# Altium integrated library TI Data Converters Analog to Digital Converter.IntLib: 2198 symbols (part 112 of 164)
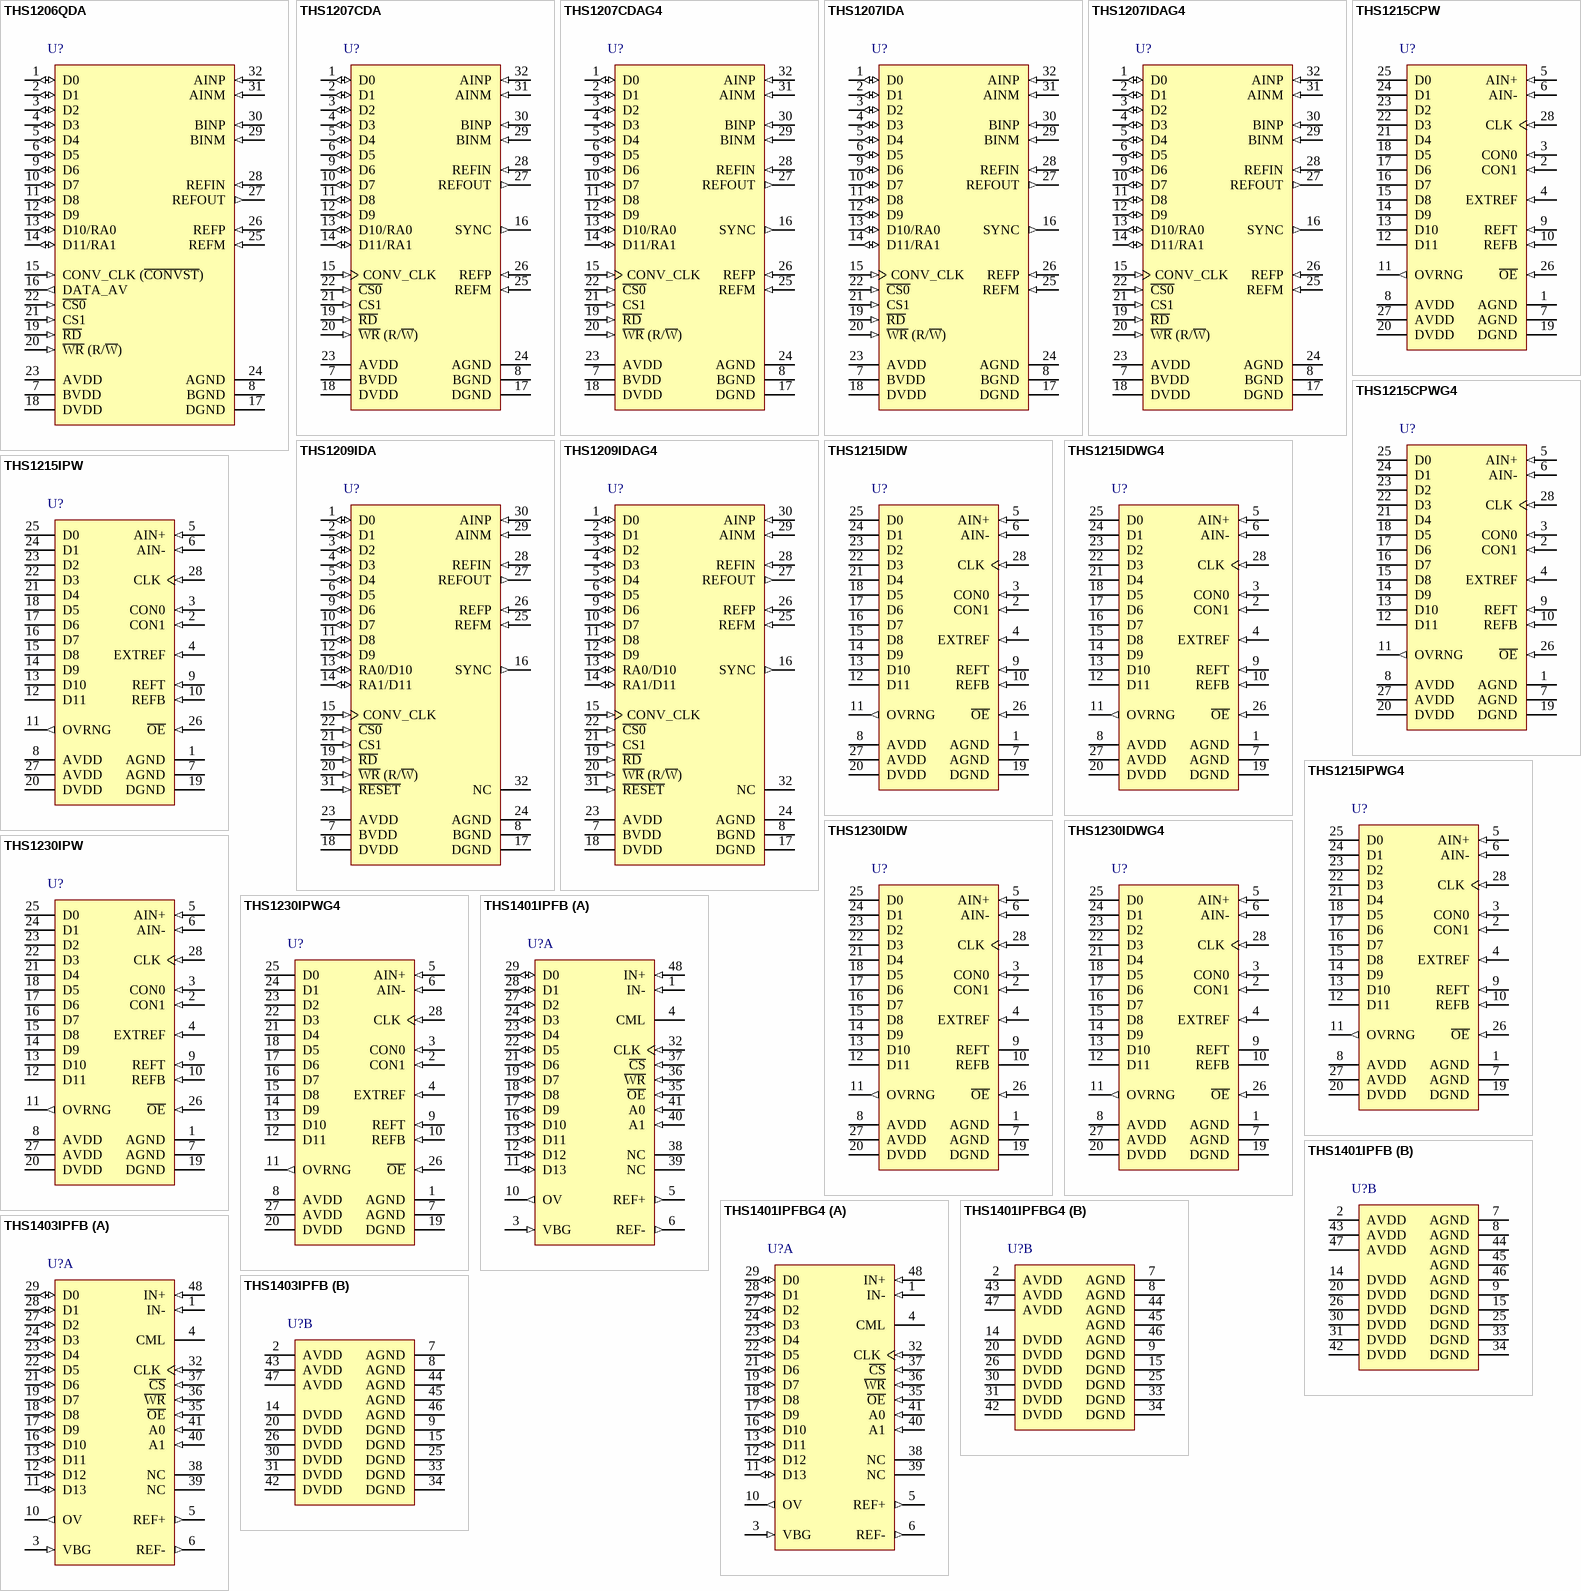
[diagram p237: symbols THS1206QDA to THS1403IPFB]

## THS1401IPFBG4
designator U?
14-Bit, 1 MSPS ADC Single Channel, Differential Input, DSP / uP Interface, Programmable Gain Amplifier, Internal S&H, -40 to 85 degC, 48-pin QFP (PFB48), Green (RoHS & no Sb/Br); Manufacturer: Texas Instruments; PartNumber: THS1401IPFBG4; # Input Channels: 1; Analog Voltage AV/DD(Max)(V): 3.6; Analog Voltage AV/DD(Min)(V): 3; Architecture: Pipeline; ENOB(Bits): 11.5; INL(Max)(+/-LSB): 2.5; Interface: Parallel CMOS; Resolution(Bits): 14; Sample Rate (max)(SPS): 1M; SFDR(dB): 80; SINAD(dB): 70; SNR(dB): 72; SubFamily: Precision ADC (<=10MSPS); DatasheetVersion: SLAS248D; PackageVersion: 4073176/B, 10/1996; PackageReference: PFB48; PackageDescription: 48-Pin Plastic Flat Pack, Body 7 x 7 mm, Pitch 0.5 mm; Supplier 1: Digi-Key; Supplier Part Number 1: 296-2847-5-ND; Digital Supply(Max)(V): 3.6; Digital Supply(Min)(V): 3; Eco-Plan: Green (RoHS & no Sb/Br); Mounting Technology: Surface Mount; Code_JEDEC: MS-026; ComponentLink1Description: Manufacturer URL; ComponentLink1URL: http://www.ti.com/; ComponentLink2Description: Datasheet; ComponentLink2URL: http://www.ti.com/general/docs/lit/getliterature.tsp?genericPartNumber=THS1401&fileType=pdf; ComponentLink3Description: Package Specification; ComponentLink3URL: http://www.ti.com/lit/ml/mtqf019a/mtqf019a.pdf
footprint TI-PFB48_N (QFP, 48-Leads, Body 7x7mm, Pitch 0.5mm, IPC Medium Density)
footprint TI-PFB48_L (QFP, 48-Leads, Body 7x7mm, Pitch 0.5mm, IPC High Density)
footprint TI-PFB48_M (QFP, 48-Leads, Body 7x7mm, Pitch 0.5mm, IPC Low Density)
part A pins: 1 IN- (in) "Negative differential analog input", 3 VBG (in) "Reference input. This pin requires a 1-uF capacitor to AGND.", 4 CML "Reference midpoint. This pin requires a 0.1-uF capacitor to AGND.", 5 REF+ (out) "Positive reference output. This pin requires a 0.1-uF capacitor to AGND.", 6 REF- (out) "Negative reference output. This pin requires a 0.1-uF capacitor to AGND.", 10 OV (out) "Out of range output", 11 D13 (io) "Data inputs/outputs", 12 D12 (io) "Data inputs/outputs", 13 D11 (io) "Data inputs/outputs", 16 D10 (io) "Data inputs/outputs", 17 D9 (io) "Data inputs/outputs", 18 D8 (io) "Data inputs/outputs", 19 D7 (io) "Data inputs/outputs", 21 D6 (io) "Data inputs/outputs", 22 D5 (io) "Data inputs/outputs", 23 D4 (io) "Data inputs/outputs", 24 D3 (io) "Data inputs/outputs", 27 D2 (io) "Data inputs/outputs", 28 D1 (io) "Data inputs/outputs", 29 D0 (io) "Data inputs/outputs", 32 CLK (in) "Clock input", 35 ~{OE} (in) "Output enable. Active low", 36 ~{WR} (in) "Write signal. Active low", 37 ~{CS} (in) "Chip select input. Active low", 38 NC "No connection; do not use. Reserved.", 39 NC "No connection; do not use. Reserved.", 40 A1 (in) "Address input", 41 A0 (in) "Address input", 48 IN+ (in) "Positive differential analog input"
part B pins: 2 AVDD (power) "Analog power supply", 7 AGND (power) "Analog ground", 8 AGND (power) "Analog ground", 9 DGND (power) "Digital ground", 14 DVDD (power) "Digital power supply", 15 DGND (power) "Digital ground", 20 DVDD (power) "Digital power supply", 25 DGND (power) "Digital ground", 26 DVDD (power) "Digital power supply", 30 DVDD (power) "Digital power supply", 31 DVDD (power) "Digital power supply", 33 DGND (power) "Digital ground", 34 DGND (power) "Digital ground", 42 DVDD (power) "Digital power supply", 43 AVDD (power) "Analog power supply", 44 AGND (power) "Analog ground", 45 AGND (power) "Analog ground", 46 AGND (power) "Analog ground", 47 AVDD (power) "Analog power supply"

## THS1403IPFB
designator U?
14-Bit, 3 MSPS ADC Single Channel, Differential Input, DSP / uP Interface, Programmable Gain Amplifier, Internal S&H, -40 to 85 degC, 48-pin QFP (PFB48), Green (RoHS & no Sb/Br); Manufacturer: Texas Instruments; PartNumber: THS1403IPFB; # Input Channels: 1; Analog Voltage AV/DD(Max)(V): 3.6; Analog Voltage AV/DD(Min)(V): 3; Architecture: Pipeline; ENOB(Bits): 11.5; INL(Max)(+/-LSB): 2.5; Interface: Parallel CMOS; Resolution(Bits): 14; Sample Rate (max)(SPS): 3M; SFDR(dB): 80; SINAD(dB): 70; SNR(dB): 72; SubFamily: Precision ADC (<=10MSPS); DatasheetVersion: SLAS248D; PackageVersion: 4073176/B, 10/1996; PackageReference: PFB48; PackageDescription: 48-Pin Plastic Flat Pack, Body 7 x 7 mm, Pitch 0.5 mm; Supplier 1: Digi-Key; Supplier Part Number 1: TLC0820ACDWG4-ND; Digital Supply(Max)(V): 3.6; Digital Supply(Min)(V): 3; Eco-Plan: Green (RoHS & no Sb/Br); Mounting Technology: Surface Mount; Code_JEDEC: MS-026; ComponentLink1Description: Manufacturer URL; ComponentLink1URL: http://www.ti.com/; ComponentLink2Description: Datasheet; ComponentLink2URL: http://www.ti.com/general/docs/lit/getliterature.tsp?genericPartNumber=THS1403&fileType=pdf; ComponentLink3Description: Package Specification; ComponentLink3URL: http://www.ti.com/lit/ml/mtqf019a/mtqf019a.pdf
footprint TI-PFB48_N (QFP, 48-Leads, Body 7x7mm, Pitch 0.5mm, IPC Medium Density)
footprint TI-PFB48_L (QFP, 48-Leads, Body 7x7mm, Pitch 0.5mm, IPC High Density)
footprint TI-PFB48_M (QFP, 48-Leads, Body 7x7mm, Pitch 0.5mm, IPC Low Density)
part A pins: 1 IN- (in) "Negative differential analog input", 3 VBG (in) "Reference input. This pin requires a 1-uF capacitor to AGND.", 4 CML "Reference midpoint. This pin requires a 0.1-uF capacitor to AGND.", 5 REF+ (out) "Positive reference output. This pin requires a 0.1-uF capacitor to AGND.", 6 REF- (out) "Negative reference output. This pin requires a 0.1-uF capacitor to AGND.", 10 OV (out) "Out of range output", 11 D13 (io) "Data inputs/outputs", 12 D12 (io) "Data inputs/outputs", 13 D11 (io) "Data inputs/outputs", 16 D10 (io) "Data inputs/outputs", 17 D9 (io) "Data inputs/outputs", 18 D8 (io) "Data inputs/outputs", 19 D7 (io) "Data inputs/outputs", 21 D6 (io) "Data inputs/outputs", 22 D5 (io) "Data inputs/outputs", 23 D4 (io) "Data inputs/outputs", 24 D3 (io) "Data inputs/outputs", 27 D2 (io) "Data inputs/outputs", 28 D1 (io) "Data inputs/outputs", 29 D0 (io) "Data inputs/outputs", 32 CLK (in) "Clock input", 35 ~{OE} (in) "Output enable. Active low", 36 ~{WR} (in) "Write signal. Active low", 37 ~{CS} (in) "Chip select input. Active low", 38 NC "No connection; do not use. Reserved.", 39 NC "No connection; do not use. Reserved.", 40 A1 (in) "Address input", 41 A0 (in) "Address input", 48 IN+ (in) "Positive differential analog input"
part B pins: 2 AVDD (power) "Analog power supply", 7 AGND (power) "Analog ground", 8 AGND (power) "Analog ground", 9 DGND (power) "Digital ground", 14 DVDD (power) "Digital power supply", 15 DGND (power) "Digital ground", 20 DVDD (power) "Digital power supply", 25 DGND (power) "Digital ground", 26 DVDD (power) "Digital power supply", 30 DVDD (power) "Digital power supply", 31 DVDD (power) "Digital power supply", 33 DGND (power) "Digital ground", 34 DGND (power) "Digital ground", 42 DVDD (power) "Digital power supply", 43 AVDD (power) "Analog power supply", 44 AGND (power) "Analog ground", 45 AGND (power) "Analog ground", 46 AGND (power) "Analog ground", 47 AVDD (power) "Analog power supply"

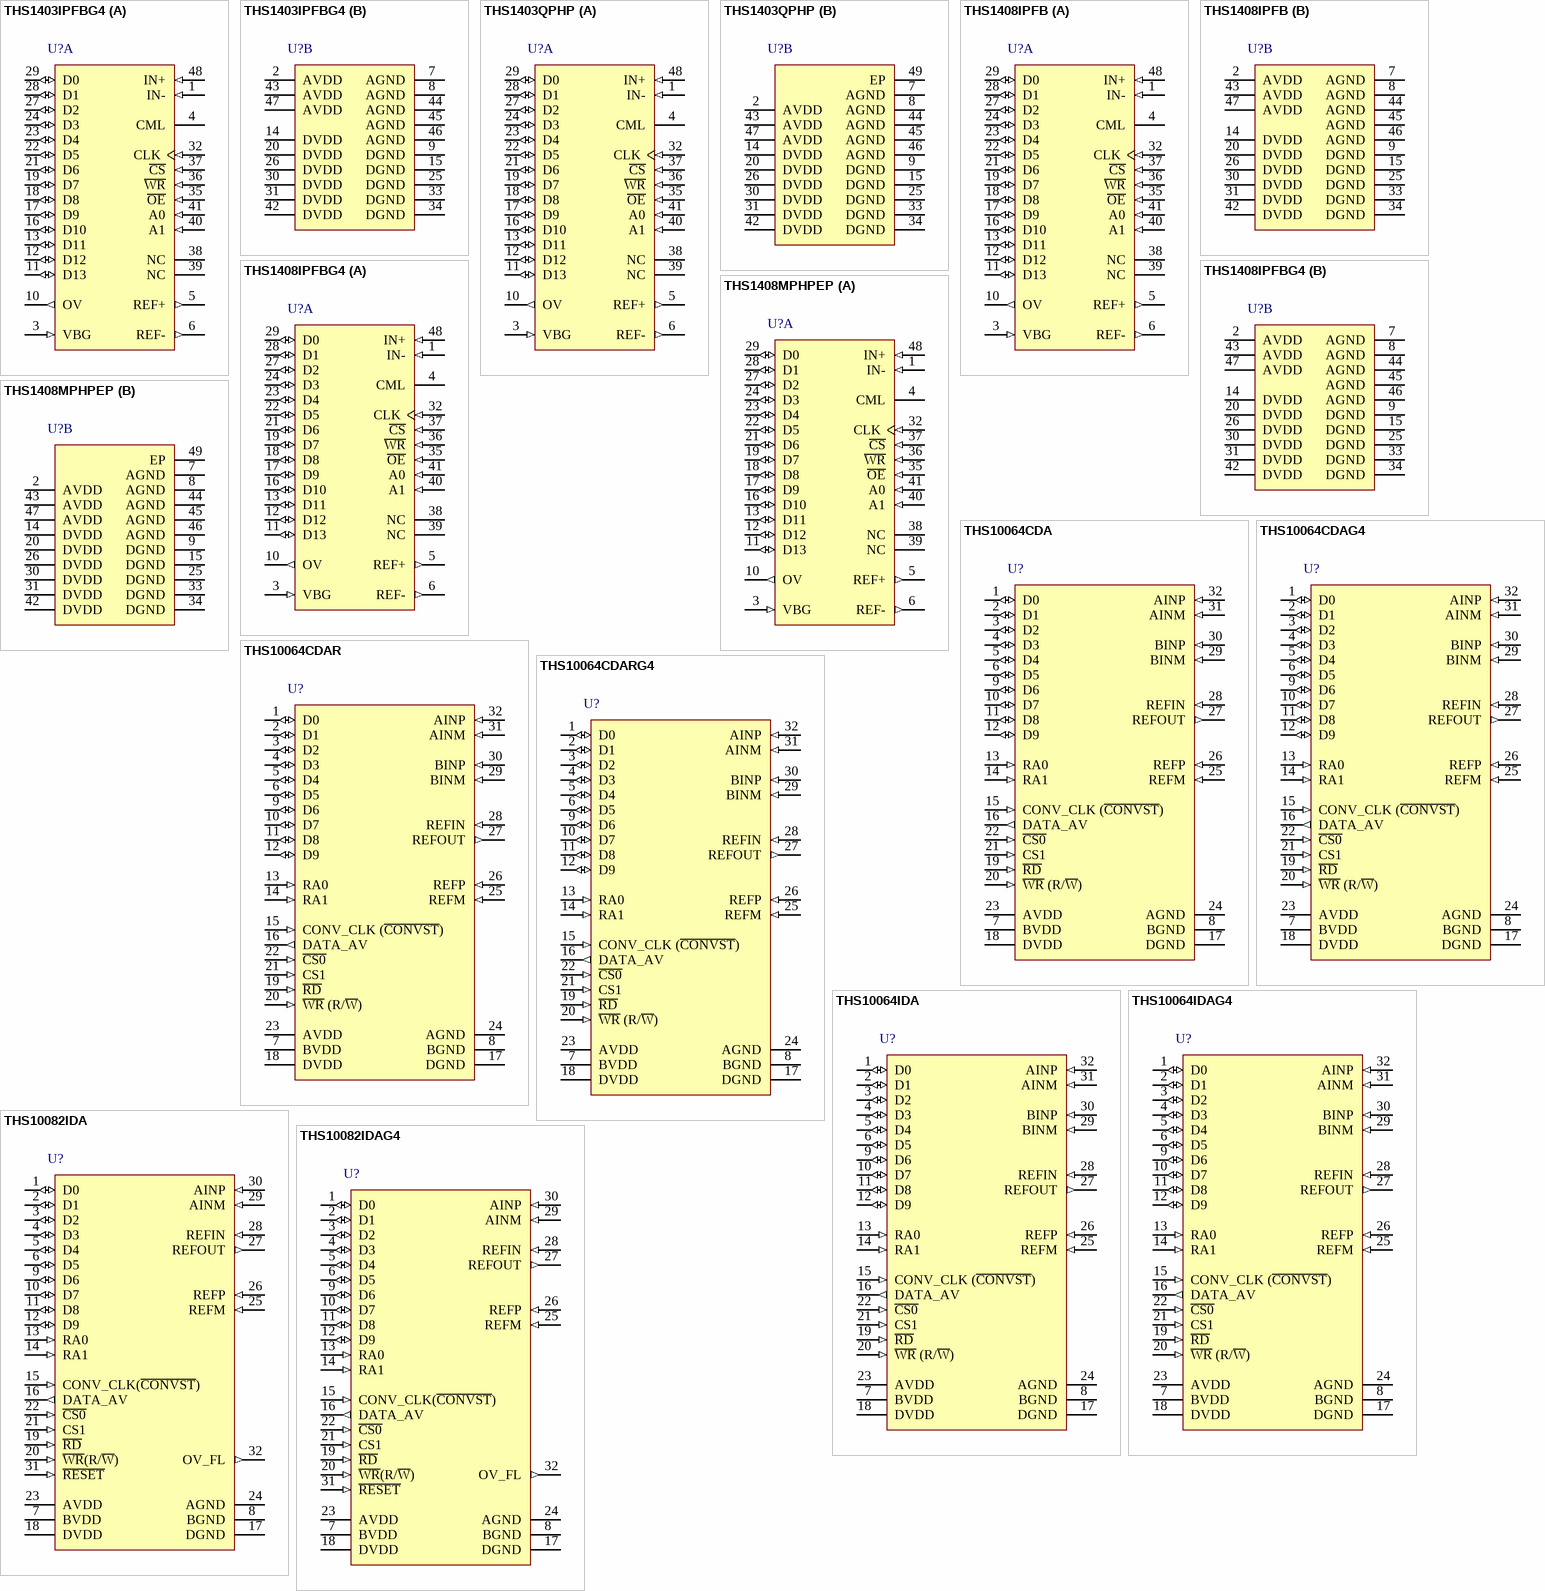
[diagram p98: symbols THS1403IPFBG4 to THS10082IDAG4]

## THS1403IPFBG4
designator U?
14-Bit, 3 MSPS ADC Single Channel, Differential Input, DSP / uP Interface, Programmable Gain Amplifier, Internal S&H, -40 to 85 degC, 48-pin QFP (PFB48), Green (RoHS & no Sb/Br); Manufacturer: Texas Instruments; PartNumber: THS1403IPFBG4; # Input Channels: 1; Analog Voltage AV/DD(Max)(V): 3.6; Analog Voltage AV/DD(Min)(V): 3; Architecture: Pipeline; ENOB(Bits): 11.5; INL(Max)(+/-LSB): 2.5; Interface: Parallel CMOS; Resolution(Bits): 14; Sample Rate (max)(SPS): 3M; SFDR(dB): 80; SINAD(dB): 70; SNR(dB): 72; SubFamily: Precision ADC (<=10MSPS); DatasheetVersion: SLAS248D; PackageVersion: 4073176/B, 10/1996; PackageReference: PFB48; PackageDescription: 48-Pin Plastic Flat Pack, Body 7 x 7 mm, Pitch 0.5 mm; Supplier 1: Digi-Key; Supplier Part Number 1: TLC0820ACDWR-ND; Digital Supply(Max)(V): 3.6; Digital Supply(Min)(V): 3; Eco-Plan: Green (RoHS & no Sb/Br); Mounting Technology: Surface Mount; Code_JEDEC: MS-026; ComponentLink1Description: Manufacturer URL; ComponentLink1URL: http://www.ti.com/; ComponentLink2Description: Datasheet; ComponentLink2URL: http://www.ti.com/general/docs/lit/getliterature.tsp?genericPartNumber=THS1403&fileType=pdf; ComponentLink3Description: Package Specification; ComponentLink3URL: http://www.ti.com/lit/ml/mtqf019a/mtqf019a.pdf
footprint TI-PFB48_N (QFP, 48-Leads, Body 7x7mm, Pitch 0.5mm, IPC Medium Density)
footprint TI-PFB48_L (QFP, 48-Leads, Body 7x7mm, Pitch 0.5mm, IPC High Density)
footprint TI-PFB48_M (QFP, 48-Leads, Body 7x7mm, Pitch 0.5mm, IPC Low Density)
part A pins: 1 IN- (in) "Negative differential analog input", 3 VBG (in) "Reference input. This pin requires a 1-uF capacitor to AGND.", 4 CML "Reference midpoint. This pin requires a 0.1-uF capacitor to AGND.", 5 REF+ (out) "Positive reference output. This pin requires a 0.1-uF capacitor to AGND.", 6 REF- (out) "Negative reference output. This pin requires a 0.1-uF capacitor to AGND.", 10 OV (out) "Out of range output", 11 D13 (io) "Data inputs/outputs", 12 D12 (io) "Data inputs/outputs", 13 D11 (io) "Data inputs/outputs", 16 D10 (io) "Data inputs/outputs", 17 D9 (io) "Data inputs/outputs", 18 D8 (io) "Data inputs/outputs", 19 D7 (io) "Data inputs/outputs", 21 D6 (io) "Data inputs/outputs", 22 D5 (io) "Data inputs/outputs", 23 D4 (io) "Data inputs/outputs", 24 D3 (io) "Data inputs/outputs", 27 D2 (io) "Data inputs/outputs", 28 D1 (io) "Data inputs/outputs", 29 D0 (io) "Data inputs/outputs", 32 CLK (in) "Clock input", 35 ~{OE} (in) "Output enable. Active low", 36 ~{WR} (in) "Write signal. Active low", 37 ~{CS} (in) "Chip select input. Active low", 38 NC "No connection; do not use. Reserved.", 39 NC "No connection; do not use. Reserved.", 40 A1 (in) "Address input", 41 A0 (in) "Address input", 48 IN+ (in) "Positive differential analog input"
part B pins: 2 AVDD (power) "Analog power supply", 7 AGND (power) "Analog ground", 8 AGND (power) "Analog ground", 9 DGND (power) "Digital ground", 14 DVDD (power) "Digital power supply", 15 DGND (power) "Digital ground", 20 DVDD (power) "Digital power supply", 25 DGND (power) "Digital ground", 26 DVDD (power) "Digital power supply", 30 DVDD (power) "Digital power supply", 31 DVDD (power) "Digital power supply", 33 DGND (power) "Digital ground", 34 DGND (power) "Digital ground", 42 DVDD (power) "Digital power supply", 43 AVDD (power) "Analog power supply", 44 AGND (power) "Analog ground", 45 AGND (power) "Analog ground", 46 AGND (power) "Analog ground", 47 AVDD (power) "Analog power supply"

## THS1403QPHP
designator U?
14-Bit, 3 MSPS ADC Single Channel, Differential Input, DSP / uP Interface, Programmable Gain Amplifier, Internal S&H, -40 to 125 degC, 48-pin QFP (PHP48), Green (RoHS & no Sb/Br); Manufacturer: Texas Instruments; PartNumber: THS1403QPHP; # Input Channels: 1; Analog Voltage AV/DD(Max)(V): 3.6; Analog Voltage AV/DD(Min)(V): 3; Architecture: Pipeline; ENOB(Bits): 11.5; Interface: Parallel CMOS; Resolution(Bits): 14; Sample Rate (max)(SPS): 3M; SFDR(dB): 80; SINAD(dB): 70; SNR(dB): 72; SubFamily: Precision ADC (<=10MSPS); DatasheetVersion: SLAS248D; PackageVersion: 4146927/B, 08/2003; PackageReference: PHP48-4790X4790TP; PackageDescription: 48-Pin PowerPAD(TM) Plastic Quad Flatpack, Body 7 x 7 mm, Pitch 0.5 mm; Supplier 1: Digi-Key; Supplier Part Number 1: TLC0820ACDWRG4-ND; Digital Supply(Max)(V): 3.6; Digital Supply(Min)(V): 3; Eco-Plan: Green (RoHS & no Sb/Br); INL(Max)(+/-LSB): 3; Mounting Technology: Surface Mount; Code_JEDEC: MS-026; ComponentLink1Description: Manufacturer URL; ComponentLink1URL: http://www.ti.com/; ComponentLink2Description: Datasheet; ComponentLink2URL: http://www.ti.com/general/docs/lit/getliterature.tsp?genericPartNumber=THS1403&fileType=pdf; ComponentLink3Description: Package Specification; ComponentLink3URL: http://www.ti.com/litv/pdf/mpqf051a
footprint TI-PHP48-4790X4790TP_N (QFP, 48-Leads, Body 7x7mm, Pitch 0.5mm, Thermal Pad 4.9 x 4.9 mm, IPC Medium Density)
footprint TI-PHP48-4790X4790TP_L (QFP, 48-Leads, Body 7x7mm, Pitch 0.5mm, Thermal Pad 4.9 x 4.9 mm, IPC High Density)
footprint TI-PHP48-4790X4790TP_M (QFP, 48-Leads, Body 7x7mm, Pitch 0.5mm, Thermal Pad 4.9 x 4.9 mm, IPC Low Density)
part A pins: 1 IN- (in) "Negative differential analog input", 3 VBG (in) "Reference input. This pin requires a 1-uF capacitor to AGND.", 4 CML "Reference midpoint. This pin requires a 0.1-uF capacitor to AGND.", 5 REF+ (out) "Positive reference output. This pin requires a 0.1-uF capacitor to AGND.", 6 REF- (out) "Negative reference output. This pin requires a 0.1-uF capacitor to AGND.", 10 OV (out) "Out of range output", 11 D13 (io) "Data inputs/outputs", 12 D12 (io) "Data inputs/outputs", 13 D11 (io) "Data inputs/outputs", 16 D10 (io) "Data inputs/outputs", 17 D9 (io) "Data inputs/outputs", 18 D8 (io) "Data inputs/outputs", 19 D7 (io) "Data inputs/outputs", 21 D6 (io) "Data inputs/outputs", 22 D5 (io) "Data inputs/outputs", 23 D4 (io) "Data inputs/outputs", 24 D3 (io) "Data inputs/outputs", 27 D2 (io) "Data inputs/outputs", 28 D1 (io) "Data inputs/outputs", 29 D0 (io) "Data inputs/outputs", 32 CLK (in) "Clock input", 35 ~{OE} (in) "Output enable. Active low", 36 ~{WR} (in) "Write signal. Active low", 37 ~{CS} (in) "Chip select input. Active low", 38 NC "No connection; do not use. Reserved.", 39 NC "No connection; do not use. Reserved.", 40 A1 (in) "Address input", 41 A0 (in) "Address input", 48 IN+ (in) "Positive differential analog input"
part B pins: 2 AVDD (power) "Analog power supply", 7 AGND (power) "Analog ground", 8 AGND (power) "Analog ground", 9 DGND (power) "Digital ground", 14 DVDD (power) "Digital power supply", 15 DGND (power) "Digital ground", 20 DVDD (power) "Digital power supply", 25 DGND (power) "Digital ground", 26 DVDD (power) "Digital power supply", 30 DVDD (power) "Digital power supply", 31 DVDD (power) "Digital power supply", 33 DGND (power) "Digital ground", 34 DGND (power) "Digital ground", 42 DVDD (power) "Digital power supply", 43 AVDD (power) "Analog power supply", 44 AGND (power) "Analog ground", 45 AGND (power) "Analog ground", 46 AGND (power) "Analog ground", 47 AVDD (power) "Analog power supply", 49 EP

## THS1408IPFB
designator U?
14-Bit, 8 MSPS ADC Single Channel, Differential Input, DSP / uP Interface, Programmable Gain Amplifier, Internal S&H, -40 to 85 degC, 48-pin QFP (PFB48), Green (RoHS & no Sb/Br); Manufacturer: Texas Instruments; PartNumber: THS1408IPFB; # Input Channels: 1; Analog Voltage AV/DD(Max)(V): 3.6; Analog Voltage AV/DD(Min)(V): 3; Architecture: Pipeline; ENOB(Bits): 11.5; INL(Max)(+/-LSB): 5; Interface: Parallel CMOS; Resolution(Bits): 14; Sample Rate (max)(SPS): 8M; SFDR(dB): 80; SINAD(dB): 70; SNR(dB): 72; SubFamily: Precision ADC (<=10MSPS); DatasheetVersion: SLAS248D; PackageVersion: 4073176/B, 10/1996; PackageReference: PFB48; PackageDescription: 48-Pin Plastic Flat Pack, Body 7 x 7 mm, Pitch 0.5 mm; Supplier 1: Digi-Key; Supplier Part Number 1: 296-2848-5-ND; Digital Supply(Max)(V): 3.6; Digital Supply(Min)(V): 3; Eco-Plan: Green (RoHS & no Sb/Br); Mounting Technology: Surface Mount; Code_JEDEC: MS-026; ComponentLink1Description: Manufacturer URL; ComponentLink1URL: http://www.ti.com/; ComponentLink2Description: Datasheet; ComponentLink2URL: http://www.ti.com/general/docs/lit/getliterature.tsp?genericPartNumber=THS1408&fileType=pdf; ComponentLink3Description: Package Specification; ComponentLink3URL: http://www.ti.com/lit/ml/mtqf019a/mtqf019a.pdf
footprint TI-PFB48_N (QFP, 48-Leads, Body 7x7mm, Pitch 0.5mm, IPC Medium Density)
footprint TI-PFB48_L (QFP, 48-Leads, Body 7x7mm, Pitch 0.5mm, IPC High Density)
footprint TI-PFB48_M (QFP, 48-Leads, Body 7x7mm, Pitch 0.5mm, IPC Low Density)
part A pins: 1 IN- (in) "Negative differential analog input", 3 VBG (in) "Reference input. This pin requires a 1-uF capacitor to AGND.", 4 CML "Reference midpoint. This pin requires a 0.1-uF capacitor to AGND.", 5 REF+ (out) "Positive reference output. This pin requires a 0.1-uF capacitor to AGND.", 6 REF- (out) "Negative reference output. This pin requires a 0.1-uF capacitor to AGND.", 10 OV (out) "Out of range output", 11 D13 (io) "Data inputs/outputs", 12 D12 (io) "Data inputs/outputs", 13 D11 (io) "Data inputs/outputs", 16 D10 (io) "Data inputs/outputs", 17 D9 (io) "Data inputs/outputs", 18 D8 (io) "Data inputs/outputs", 19 D7 (io) "Data inputs/outputs", 21 D6 (io) "Data inputs/outputs", 22 D5 (io) "Data inputs/outputs", 23 D4 (io) "Data inputs/outputs", 24 D3 (io) "Data inputs/outputs", 27 D2 (io) "Data inputs/outputs", 28 D1 (io) "Data inputs/outputs", 29 D0 (io) "Data inputs/outputs", 32 CLK (in) "Clock input", 35 ~{OE} (in) "Output enable. Active low", 36 ~{WR} (in) "Write signal. Active low", 37 ~{CS} (in) "Chip select input. Active low", 38 NC "No connection; do not use. Reserved.", 39 NC "No connection; do not use. Reserved.", 40 A1 (in) "Address input", 41 A0 (in) "Address input", 48 IN+ (in) "Positive differential analog input"
part B pins: 2 AVDD (power) "Analog power supply", 7 AGND (power) "Analog ground", 8 AGND (power) "Analog ground", 9 DGND (power) "Digital ground", 14 DVDD (power) "Digital power supply", 15 DGND (power) "Digital ground", 20 DVDD (power) "Digital power supply", 25 DGND (power) "Digital ground", 26 DVDD (power) "Digital power supply", 30 DVDD (power) "Digital power supply", 31 DVDD (power) "Digital power supply", 33 DGND (power) "Digital ground", 34 DGND (power) "Digital ground", 42 DVDD (power) "Digital power supply", 43 AVDD (power) "Analog power supply", 44 AGND (power) "Analog ground", 45 AGND (power) "Analog ground", 46 AGND (power) "Analog ground", 47 AVDD (power) "Analog power supply"

## THS1408IPFBG4
designator U?
14-Bit, 8 MSPS ADC Single Channel, Differential Input, DSP / uP Interface, Programmable Gain Amplifier, Internal S&H, -40 to 85 degC, 48-pin QFP (PFB48), Green (RoHS & no Sb/Br); Manufacturer: Texas Instruments; PartNumber: THS1408IPFBG4; # Input Channels: 1; Analog Voltage AV/DD(Max)(V): 3.6; Analog Voltage AV/DD(Min)(V): 3; Architecture: Pipeline; ENOB(Bits): 11.5; INL(Max)(+/-LSB): 5; Interface: Parallel CMOS; Resolution(Bits): 14; Sample Rate (max)(SPS): 8M; SFDR(dB): 80; SINAD(dB): 70; SNR(dB): 72; SubFamily: Precision ADC (<=10MSPS); DatasheetVersion: SLAS248D; PackageVersion: 4073176/B, 10/1996; PackageReference: PFB48; PackageDescription: 48-Pin Plastic Flat Pack, Body 7 x 7 mm, Pitch 0.5 mm; Supplier 1: Digi-Key; Supplier Part Number 1: TLC0820ACFNG3-ND; Digital Supply(Max)(V): 3.6; Digital Supply(Min)(V): 3; Eco-Plan: Green (RoHS & no Sb/Br); Mounting Technology: Surface Mount; Code_JEDEC: MS-026; ComponentLink1Description: Manufacturer URL; ComponentLink1URL: http://www.ti.com/; ComponentLink2Description: Datasheet; ComponentLink2URL: http://www.ti.com/general/docs/lit/getliterature.tsp?genericPartNumber=THS1408&fileType=pdf; ComponentLink3Description: Package Specification; ComponentLink3URL: http://www.ti.com/lit/ml/mtqf019a/mtqf019a.pdf
footprint TI-PFB48_N (QFP, 48-Leads, Body 7x7mm, Pitch 0.5mm, IPC Medium Density)
footprint TI-PFB48_L (QFP, 48-Leads, Body 7x7mm, Pitch 0.5mm, IPC High Density)
footprint TI-PFB48_M (QFP, 48-Leads, Body 7x7mm, Pitch 0.5mm, IPC Low Density)
part A pins: 1 IN- (in) "Negative differential analog input", 3 VBG (in) "Reference input. This pin requires a 1-uF capacitor to AGND.", 4 CML "Reference midpoint. This pin requires a 0.1-uF capacitor to AGND.", 5 REF+ (out) "Positive reference output. This pin requires a 0.1-uF capacitor to AGND.", 6 REF- (out) "Negative reference output. This pin requires a 0.1-uF capacitor to AGND.", 10 OV (out) "Out of range output", 11 D13 (io) "Data inputs/outputs", 12 D12 (io) "Data inputs/outputs", 13 D11 (io) "Data inputs/outputs", 16 D10 (io) "Data inputs/outputs", 17 D9 (io) "Data inputs/outputs", 18 D8 (io) "Data inputs/outputs", 19 D7 (io) "Data inputs/outputs", 21 D6 (io) "Data inputs/outputs", 22 D5 (io) "Data inputs/outputs", 23 D4 (io) "Data inputs/outputs", 24 D3 (io) "Data inputs/outputs", 27 D2 (io) "Data inputs/outputs", 28 D1 (io) "Data inputs/outputs", 29 D0 (io) "Data inputs/outputs", 32 CLK (in) "Clock input", 35 ~{OE} (in) "Output enable. Active low", 36 ~{WR} (in) "Write signal. Active low", 37 ~{CS} (in) "Chip select input. Active low", 38 NC "No connection; do not use. Reserved.", 39 NC "No connection; do not use. Reserved.", 40 A1 (in) "Address input", 41 A0 (in) "Address input", 48 IN+ (in) "Positive differential analog input"
part B pins: 2 AVDD (power) "Analog power supply", 7 AGND (power) "Analog ground", 8 AGND (power) "Analog ground", 9 DGND (power) "Digital ground", 14 DVDD (power) "Digital power supply", 15 DGND (power) "Digital ground", 20 DVDD (power) "Digital power supply", 25 DGND (power) "Digital ground", 26 DVDD (power) "Digital power supply", 30 DVDD (power) "Digital power supply", 31 DVDD (power) "Digital power supply", 33 DGND (power) "Digital ground", 34 DGND (power) "Digital ground", 42 DVDD (power) "Digital power supply", 43 AVDD (power) "Analog power supply", 44 AGND (power) "Analog ground", 45 AGND (power) "Analog ground", 46 AGND (power) "Analog ground", 47 AVDD (power) "Analog power supply"

## THS1408MPHPEP
designator U?
Enhanced Product 14-Bit, 8 MSPS ADC Single Channel, Differential Input, DSP / uP Interface, Programmable Gain Amplifier, -55 to 125 degC, 48-pin QFP (PHP48), Green (RoHS & no Sb/Br); Manufacturer: Texas Instruments; PartNumber: THS1408MPHPEP; # Input Channels: 1; Analog Voltage AV/DD(Max)(V): 3.6; Analog Voltage AV/DD(Min)(V): 3; Architecture: Pipeline; ENOB(Bits): 11.5; INL(Max)(+/-LSB): 10.5; Interface: Parallel CMOS; Resolution(Bits): 14; Sample Rate (max)(SPS): 8M; SFDR(dB): 80; SINAD(dB): 70; SNR(dB): 72; SubFamily: Precision ADC (<=10MSPS); DatasheetVersion: SGLS129B; PackageVersion: 4146927/B, 08/2003; PackageReference: PHP48-4385X4385TP; PackageDescription: 48-Pin PowerPAD(TM) Plastic Quad Flatpack, Body 7 x 7 mm, Pitch 0.5 mm; Supplier 1: Digi-Key; Supplier Part Number 1: 296-2849-5-ND; Digital Supply(Max)(V): 3.6; Digital Supply(Min)(V): 3; Eco-Plan: Green (RoHS & no Sb/Br); Mounting Technology: Surface Mount; Code_JEDEC: MS-026; ComponentLink1Description: Manufacturer URL; ComponentLink1URL: http://www.ti.com/; ComponentLink2Description: Datasheet; ComponentLink2URL: http://www.ti.com/general/docs/lit/getliterature.tsp?genericPartNumber=THS1408-EP&fileType=pdf; ComponentLink3Description: Package Specification; ComponentLink3URL: http://www.ti.com/litv/pdf/mpdi001b
footprint TI-PHP48-4385X4385TP_N (QFP, 48-Leads, Body 7x7mm, Pitch 0.5mm, Thermal Pad 4.9x4.9mm, IPC Medium Density)
footprint TI-PHP48-4385X4385TP_L (QFP, 48-Leads, Body 7x7mm, Pitch 0.5mm, Thermal Pad 4.9x4.9mm, IPC High Density)
footprint TI-PHP48-4385X4385TP_M (QFP, 48-Leads, Body 7x7mm, Pitch 0.5mm, Thermal Pad 4.9x4.9mm, IPC Low Density)
part A pins: 1 IN- (in) "Negative differential analog input", 3 VBG (in) "Reference input. This pin requires a 1-uF capacitor to AGND.", 4 CML "Reference midpoint. This pin requires a 0.1-uF capacitor to AGND.", 5 REF+ (out) "Positive reference output. This pin requires a 0.1-uF capacitor to AGND.", 6 REF- (out) "Negative reference output. This pin requires a 0.1-uF capacitor to AGND.", 10 OV (out) "Out of range output", 11 D13 (io) "Data inputs/outputs", 12 D12 (io) "Data inputs/outputs", 13 D11 (io) "Data inputs/outputs", 16 D10 (io) "Data inputs/outputs", 17 D9 (io) "Data inputs/outputs", 18 D8 (io) "Data inputs/outputs", 19 D7 (io) "Data inputs/outputs", 21 D6 (io) "Data inputs/outputs", 22 D5 (io) "Data inputs/outputs", 23 D4 (io) "Data inputs/outputs", 24 D3 (io) "Data inputs/outputs", 27 D2 (io) "Data inputs/outputs", 28 D1 (io) "Data inputs/outputs", 29 D0 (io) "Data inputs/outputs", 32 CLK (in) "Clock input", 35 ~{OE} (in) "Output enable. Active low", 36 ~{WR} (in) "Write signal. Active low", 37 ~{CS} (in) "Chip select input. Active low", 38 NC "No connection; do not use. Reserved.", 39 NC "No connection; do not use. Reserved.", 40 A1 (in) "Address input", 41 A0 (in) "Address input", 48 IN+ (in) "Positive differential analog input"
part B pins: 2 AVDD (power) "Analog power supply", 7 AGND (power) "Analog ground", 8 AGND (power) "Analog ground", 9 DGND (power) "Digital ground", 14 DVDD (power) "Digital power supply", 15 DGND (power) "Digital ground", 20 DVDD (power) "Digital power supply", 25 DGND (power) "Digital ground", 26 DVDD (power) "Digital power supply", 30 DVDD (power) "Digital power supply", 31 DVDD (power) "Digital power supply", 33 DGND (power) "Digital ground", 34 DGND (power) "Digital ground", 42 DVDD (power) "Digital power supply", 43 AVDD (power) "Analog power supply", 44 AGND (power) "Analog ground", 45 AGND (power) "Analog ground", 46 AGND (power) "Analog ground", 47 AVDD (power) "Analog power supply", 49 EP

## THS10064CDA
designator U?
10-Bit, 6 MSPS ADC Quad Channel (Configuration), DSP / uP Interface, Integral 16 x FIFO, Channel Autoscan, Low Power, 0 to 70 degC, 32-pin SOP (DA32), Green (RoHS & no Sb/Br); Manufacturer: Texas Instruments; PartNumber: THS10064CDA; # Input Channels: 4; Analog Voltage AV/DD(Max)(V): 5.25; Analog Voltage AV/DD(Min)(V): 4.75; Architecture: Pipeline; Digital Supply(Min)(V): 3; ENOB(Bits): 9.5; INL(Max)(+/-LSB): 1; Interface: Parallel CMOS; Resolution(Bits): 10; Sample Rate (max)(SPS): 6M; SFDR(dB): 65; SINAD(dB): 59; SNR(dB): 61; SubFamily: Precision ADC (<=10MSPS); DatasheetVersion: SLAS255B; PackageVersion: 4040066/F, 01/2009; PackageReference: DA32; PackageDescription: 32-Pin Plastic Small Outline, Body 11 x 6.1 mm, Pitch 0.65 mm; Supplier 1: Digi-Key; Supplier Part Number 1: TLC0820ACNE4-ND; Digital Supply(Max)(V): 5.25; Eco-Plan: Green (RoHS & no Sb/Br); Mounting Technology: Surface Mount; Code_JEDEC: MO-225; ComponentLink1Description: Manufacturer URL; ComponentLink1URL: http://www.ti.com/; ComponentLink2Description: Datasheet; ComponentLink2URL: http://www.ti.com/general/docs/lit/getliterature.tsp?genericPartNumber=THS10064&fileType=pdf; ComponentLink3Description: Package Specification; ComponentLink3URL: http://www.ti.com/lit/ml/mtss002e/mtss002e.pdf
footprint TI-DA32_N (SOP, 32-Leads, Body 11x6.1mm, Pitch 0.65mm, IPC Medium Density)
footprint TI-DA32_L (SOP, 32-Leads, Body 11x6.1mm, Pitch 0.65mm, IPC High Density)
footprint TI-DA32_M (SOP, 32-Leads, Body 11x6.1mm, Pitch 0.65mm, IPC Low Density)
pins: 1 D0 (io) "Digital input, output; D0 = LSB", 2 D1 (io) "Digital input, output; D0 = LSB", 3 D2 (io) "Digital input, output; D0 = LSB", 4 D3 (io) "Digital input, output; D0 = LSB", 5 D4 (io) "Digital input, output; D0 = LSB", 6 D5 (io) "Digital input, output; D0 = LSB", 7 BVDD (power) "Digital supply voltage for buffer", 8 BGND (power) "Digital ground for buffer", 9 D6 (io) "Digital input, output; D0 = LSB", 10 D7 (io) "Digital input, output; D0 = LSB", 11 D8 (io) "Digital input, output; D0 = LSB", 12 D9 (io) "Digital input, output; D0 = LSB", 13 RA0 (in) "Digital input. RA0 is used as an address line for the control register. This is required for writing to the control register 0 and control register 1. See Table 8.", 14 RA1 (in) "Digital input. RA1 is used as an address line for the control register. This is required for writing to control register 0 and control register 1. See Table 8.", 15 CONV_CLK (~{CONVST}) (in) "Digital input. This input is used to apply an external conversion clock in the continuous conversion mode. In the single conversion mode, this input functions as the conversion start (C\O\N\V\S\T\) input. A high to low (See Datasheet)", 16 DATA_AV (out) "Data available signal, which can be used to generate an interrupt for processors and as a level information of the internal FIFO. This signal can be configured to be active low or high and can be configured as a static level (See Datasheet)", 17 DGND (power) "Digital ground. Ground reference for digital circuitry.", 18 DVDD (power) "Digital supply voltage", 19 ~{RD} (in) "The R\D\ input is used only if the W\R\ input is configured as a write only input. In this case, it is a digital input, active low as a data read select from the processor. See timing section.", 20 ~{WR} (R/~{W}) (in) "This input is programmable. It functions as a read-write input R/W\ and can also be configured as a write-only input W\R\, which is active low and used as data write select from the processor. In this case, the R\D\ input is (See Datasheet)", 21 CS1 (in) "Chip select input (active high)", 22 ~{CS0} (in) "Chip select input (active low)", 23 AVDD (power) "Analog supply voltage", 24 AGND (power) "Analog ground", 25 REFM (in) "Reference input, requires a bypass capacitor of 10 uF to AGND in order to bypass the internal reference voltage. An external reference voltage at this input can be applied. This option can be programmed through control (See Datasheet)", 26 REFP (in) "Reference input, requires a bypass capacitor of 10 uF to AGND in order to bypass the internal reference voltage. An external reference voltage at this input can be applied. This option can be programmed through control (See Datasheet)", 27 REFOUT (out) "Analog fixed reference output voltage of 2.5 V. Sink and source capability of 250 uA. The reference output requires a capacitor of 10 uF to AGND for filtering and stability.", 28 REFIN (in) "Common-mode reference input for the analog input channels. It is recommended that this pin be connected to the reference output REFOUT.", 29 BINM (in) "Analog input, single-ended or negative input of differential channel B", 30 BINP (in) "Analog input, single-ended or positive input of differential channel B", 31 AINM (in) "Analog input, single-ended or negative input of differential channel A", 32 AINP (in) "Analog input, single-ended or positive input of differential channel A"

## THS10064CDAG4
designator U?
10-Bit, 6 MSPS ADC Quad Channel (Configuration), DSP / uP Interface, Integral 16 x FIFO, Channel Autoscan, Low Power, 0 to 70 degC, 32-pin SOP (DA32), Green (RoHS & no Sb/Br); Manufacturer: Texas Instruments; PartNumber: THS10064CDAG4; # Input Channels: 4; Analog Voltage AV/DD(Max)(V): 5.25; Analog Voltage AV/DD(Min)(V): 4.75; Architecture: Pipeline; Digital Supply(Min)(V): 3; ENOB(Bits): 9.5; INL(Max)(+/-LSB): 1; Interface: Parallel CMOS; Resolution(Bits): 10; Sample Rate (max)(SPS): 6M; SFDR(dB): 65; SINAD(dB): 59; SNR(dB): 61; SubFamily: Precision ADC (<=10MSPS); DatasheetVersion: SLAS255B; PackageVersion: 4040066/F, 01/2009; PackageReference: DA32; PackageDescription: 32-Pin Plastic Small Outline, Body 11 x 6.1 mm, Pitch 0.65 mm; Supplier 1: Digi-Key; Supplier Part Number 1: 296-2850-5-ND; Digital Supply(Max)(V): 5.25; Eco-Plan: Green (RoHS & no Sb/Br); Mounting Technology: Surface Mount; Code_JEDEC: MO-225; ComponentLink1Description: Manufacturer URL; ComponentLink1URL: http://www.ti.com/; ComponentLink2Description: Datasheet; ComponentLink2URL: http://www.ti.com/general/docs/lit/getliterature.tsp?genericPartNumber=THS10064&fileType=pdf; ComponentLink3Description: Package Specification; ComponentLink3URL: http://www.ti.com/lit/ml/mtss002e/mtss002e.pdf
footprint TI-DA32_N (SOP, 32-Leads, Body 11x6.1mm, Pitch 0.65mm, IPC Medium Density)
footprint TI-DA32_L (SOP, 32-Leads, Body 11x6.1mm, Pitch 0.65mm, IPC High Density)
footprint TI-DA32_M (SOP, 32-Leads, Body 11x6.1mm, Pitch 0.65mm, IPC Low Density)
pins: 1 D0 (io) "Digital input, output; D0 = LSB", 2 D1 (io) "Digital input, output; D0 = LSB", 3 D2 (io) "Digital input, output; D0 = LSB", 4 D3 (io) "Digital input, output; D0 = LSB", 5 D4 (io) "Digital input, output; D0 = LSB", 6 D5 (io) "Digital input, output; D0 = LSB", 7 BVDD (power) "Digital supply voltage for buffer", 8 BGND (power) "Digital ground for buffer", 9 D6 (io) "Digital input, output; D0 = LSB", 10 D7 (io) "Digital input, output; D0 = LSB", 11 D8 (io) "Digital input, output; D0 = LSB", 12 D9 (io) "Digital input, output; D0 = LSB", 13 RA0 (in) "Digital input. RA0 is used as an address line for the control register. This is required for writing to the control register 0 and control register 1. See Table 8.", 14 RA1 (in) "Digital input. RA1 is used as an address line for the control register. This is required for writing to control register 0 and control register 1. See Table 8.", 15 CONV_CLK (~{CONVST}) (in) "Digital input. This input is used to apply an external conversion clock in the continuous conversion mode. In the single conversion mode, this input functions as the conversion start (C\O\N\V\S\T\) input. A high to low (See Datasheet)", 16 DATA_AV (out) "Data available signal, which can be used to generate an interrupt for processors and as a level information of the internal FIFO. This signal can be configured to be active low or high and can be configured as a static level (See Datasheet)", 17 DGND (power) "Digital ground. Ground reference for digital circuitry.", 18 DVDD (power) "Digital supply voltage", 19 ~{RD} (in) "The R\D\ input is used only if the W\R\ input is configured as a write only input. In this case, it is a digital input, active low as a data read select from the processor. See timing section.", 20 ~{WR} (R/~{W}) (in) "This input is programmable. It functions as a read-write input R/W\ and can also be configured as a write-only input W\R\, which is active low and used as data write select from the processor. In this case, the R\D\ input is (See Datasheet)", 21 CS1 (in) "Chip select input (active high)", 22 ~{CS0} (in) "Chip select input (active low)", 23 AVDD (power) "Analog supply voltage", 24 AGND (power) "Analog ground", 25 REFM (in) "Reference input, requires a bypass capacitor of 10 uF to AGND in order to bypass the internal reference voltage. An external reference voltage at this input can be applied. This option can be programmed through control (See Datasheet)", 26 REFP (in) "Reference input, requires a bypass capacitor of 10 uF to AGND in order to bypass the internal reference voltage. An external reference voltage at this input can be applied. This option can be programmed through control (See Datasheet)", 27 REFOUT (out) "Analog fixed reference output voltage of 2.5 V. Sink and source capability of 250 uA. The reference output requires a capacitor of 10 uF to AGND for filtering and stability.", 28 REFIN (in) "Common-mode reference input for the analog input channels. It is recommended that this pin be connected to the reference output REFOUT.", 29 BINM (in) "Analog input, single-ended or negative input of differential channel B", 30 BINP (in) "Analog input, single-ended or positive input of differential channel B", 31 AINM (in) "Analog input, single-ended or negative input of differential channel A", 32 AINP (in) "Analog input, single-ended or positive input of differential channel A"

## THS10064CDAR
designator U?
10-Bit, 6 MSPS ADC Quad Channel (Configuration), DSP / uP Interface, Integral 16 x FIFO, Channel Autoscan, Low Power, 0 to 70 degC, 32-pin SOP (DA32), Green (RoHS & no Sb/Br); Manufacturer: Texas Instruments; PartNumber: THS10064CDAR; # Input Channels: 4; Analog Voltage AV/DD(Max)(V): 5.25; Analog Voltage AV/DD(Min)(V): 4.75; Architecture: Pipeline; Digital Supply(Min)(V): 3; ENOB(Bits): 9.5; INL(Max)(+/-LSB): 1; Interface: Parallel CMOS; Resolution(Bits): 10; Sample Rate (max)(SPS): 6M; SFDR(dB): 65; SINAD(dB): 59; SNR(dB): 61; SubFamily: Precision ADC (<=10MSPS); DatasheetVersion: SLAS255B; PackageVersion: 4040066/F, 01/2009; PackageReference: DA32; PackageDescription: 32-Pin Plastic Small Outline, Body 11 x 6.1 mm, Pitch 0.65 mm; Supplier 1: Digi-Key; Supplier Part Number 1: TLC0820AIDWG4-ND; Digital Supply(Max)(V): 5.25; Eco-Plan: Green (RoHS & no Sb/Br); Mounting Technology: Surface Mount; Code_JEDEC: MO-225; ComponentLink1Description: Manufacturer URL; ComponentLink1URL: http://www.ti.com/; ComponentLink2Description: Datasheet; ComponentLink2URL: http://www.ti.com/general/docs/lit/getliterature.tsp?genericPartNumber=THS10064&fileType=pdf; ComponentLink3Description: Package Specification; ComponentLink3URL: http://www.ti.com/lit/ml/mtss002e/mtss002e.pdf
footprint TI-DA32_N (SOP, 32-Leads, Body 11x6.1mm, Pitch 0.65mm, IPC Medium Density)
footprint TI-DA32_L (SOP, 32-Leads, Body 11x6.1mm, Pitch 0.65mm, IPC High Density)
footprint TI-DA32_M (SOP, 32-Leads, Body 11x6.1mm, Pitch 0.65mm, IPC Low Density)
pins: 1 D0 (io) "Digital input, output; D0 = LSB", 2 D1 (io) "Digital input, output; D0 = LSB", 3 D2 (io) "Digital input, output; D0 = LSB", 4 D3 (io) "Digital input, output; D0 = LSB", 5 D4 (io) "Digital input, output; D0 = LSB", 6 D5 (io) "Digital input, output; D0 = LSB", 7 BVDD (power) "Digital supply voltage for buffer", 8 BGND (power) "Digital ground for buffer", 9 D6 (io) "Digital input, output; D0 = LSB", 10 D7 (io) "Digital input, output; D0 = LSB", 11 D8 (io) "Digital input, output; D0 = LSB", 12 D9 (io) "Digital input, output; D0 = LSB", 13 RA0 (in) "Digital input. RA0 is used as an address line for the control register. This is required for writing to the control register 0 and control register 1. See Table 8.", 14 RA1 (in) "Digital input. RA1 is used as an address line for the control register. This is required for writing to control register 0 and control register 1. See Table 8.", 15 CONV_CLK (~{CONVST}) (in) "Digital input. This input is used to apply an external conversion clock in the continuous conversion mode. In the single conversion mode, this input functions as the conversion start (C\O\N\V\S\T\) input. A high to low (See Datasheet)", 16 DATA_AV (out) "Data available signal, which can be used to generate an interrupt for processors and as a level information of the internal FIFO. This signal can be configured to be active low or high and can be configured as a static level (See Datasheet)", 17 DGND (power) "Digital ground. Ground reference for digital circuitry.", 18 DVDD (power) "Digital supply voltage", 19 ~{RD} (in) "The R\D\ input is used only if the W\R\ input is configured as a write only input. In this case, it is a digital input, active low as a data read select from the processor. See timing section.", 20 ~{WR} (R/~{W}) (in) "This input is programmable. It functions as a read-write input R/W\ and can also be configured as a write-only input W\R\, which is active low and used as data write select from the processor. In this case, the R\D\ input is (See Datasheet)", 21 CS1 (in) "Chip select input (active high)", 22 ~{CS0} (in) "Chip select input (active low)", 23 AVDD (power) "Analog supply voltage", 24 AGND (power) "Analog ground", 25 REFM (in) "Reference input, requires a bypass capacitor of 10 uF to AGND in order to bypass the internal reference voltage. An external reference voltage at this input can be applied. This option can be programmed through control (See Datasheet)", 26 REFP (in) "Reference input, requires a bypass capacitor of 10 uF to AGND in order to bypass the internal reference voltage. An external reference voltage at this input can be applied. This option can be programmed through control (See Datasheet)", 27 REFOUT (out) "Analog fixed reference output voltage of 2.5 V. Sink and source capability of 250 uA. The reference output requires a capacitor of 10 uF to AGND for filtering and stability.", 28 REFIN (in) "Common-mode reference input for the analog input channels. It is recommended that this pin be connected to the reference output REFOUT.", 29 BINM (in) "Analog input, single-ended or negative input of differential channel B", 30 BINP (in) "Analog input, single-ended or positive input of differential channel B", 31 AINM (in) "Analog input, single-ended or negative input of differential channel A", 32 AINP (in) "Analog input, single-ended or positive input of differential channel A"

## THS10064CDARG4
designator U?
10-Bit, 6 MSPS ADC Quad Channel (Configuration), DSP / uP Interface, Integral 16 x FIFO, Channel Autoscan, Low Power, 0 to 70 degC, 32-pin SOP (DA32), Green (RoHS & no Sb/Br); Manufacturer: Texas Instruments; PartNumber: THS10064CDARG4; # Input Channels: 4; Analog Voltage AV/DD(Max)(V): 5.25; Analog Voltage AV/DD(Min)(V): 4.75; Architecture: Pipeline; Digital Supply(Min)(V): 3; ENOB(Bits): 9.5; INL(Max)(+/-LSB): 1; Interface: Parallel CMOS; Resolution(Bits): 10; Sample Rate (max)(SPS): 6M; SFDR(dB): 65; SINAD(dB): 59; SNR(dB): 61; SubFamily: Precision ADC (<=10MSPS); DatasheetVersion: SLAS255B; PackageVersion: 4040066/F, 01/2009; PackageReference: DA32; PackageDescription: 32-Pin Plastic Small Outline, Body 11 x 6.1 mm, Pitch 0.65 mm; Supplier 1: Digi-Key; Supplier Part Number 1: TLC0820AIDWR-ND; Digital Supply(Max)(V): 5.25; Eco-Plan: Green (RoHS & no Sb/Br); Mounting Technology: Surface Mount; Code_JEDEC: MO-225; ComponentLink1Description: Manufacturer URL; ComponentLink1URL: http://www.ti.com/; ComponentLink2Description: Datasheet; ComponentLink2URL: http://www.ti.com/general/docs/lit/getliterature.tsp?genericPartNumber=THS10064&fileType=pdf; ComponentLink3Description: Package Specification; ComponentLink3URL: http://www.ti.com/lit/ml/mtss002e/mtss002e.pdf
footprint TI-DA32_N (SOP, 32-Leads, Body 11x6.1mm, Pitch 0.65mm, IPC Medium Density)
footprint TI-DA32_L (SOP, 32-Leads, Body 11x6.1mm, Pitch 0.65mm, IPC High Density)
footprint TI-DA32_M (SOP, 32-Leads, Body 11x6.1mm, Pitch 0.65mm, IPC Low Density)
pins: 1 D0 (io) "Digital input, output; D0 = LSB", 2 D1 (io) "Digital input, output; D0 = LSB", 3 D2 (io) "Digital input, output; D0 = LSB", 4 D3 (io) "Digital input, output; D0 = LSB", 5 D4 (io) "Digital input, output; D0 = LSB", 6 D5 (io) "Digital input, output; D0 = LSB", 7 BVDD (power) "Digital supply voltage for buffer", 8 BGND (power) "Digital ground for buffer", 9 D6 (io) "Digital input, output; D0 = LSB", 10 D7 (io) "Digital input, output; D0 = LSB", 11 D8 (io) "Digital input, output; D0 = LSB", 12 D9 (io) "Digital input, output; D0 = LSB", 13 RA0 (in) "Digital input. RA0 is used as an address line for the control register. This is required for writing to the control register 0 and control register 1. See Table 8.", 14 RA1 (in) "Digital input. RA1 is used as an address line for the control register. This is required for writing to control register 0 and control register 1. See Table 8.", 15 CONV_CLK (~{CONVST}) (in) "Digital input. This input is used to apply an external conversion clock in the continuous conversion mode. In the single conversion mode, this input functions as the conversion start (C\O\N\V\S\T\) input. A high to low (See Datasheet)", 16 DATA_AV (out) "Data available signal, which can be used to generate an interrupt for processors and as a level information of the internal FIFO. This signal can be configured to be active low or high and can be configured as a static level (See Datasheet)", 17 DGND (power) "Digital ground. Ground reference for digital circuitry.", 18 DVDD (power) "Digital supply voltage", 19 ~{RD} (in) "The R\D\ input is used only if the W\R\ input is configured as a write only input. In this case, it is a digital input, active low as a data read select from the processor. See timing section.", 20 ~{WR} (R/~{W}) (in) "This input is programmable. It functions as a read-write input R/W\ and can also be configured as a write-only input W\R\, which is active low and used as data write select from the processor. In this case, the R\D\ input is (See Datasheet)", 21 CS1 (in) "Chip select input (active high)", 22 ~{CS0} (in) "Chip select input (active low)", 23 AVDD (power) "Analog supply voltage", 24 AGND (power) "Analog ground", 25 REFM (in) "Reference input, requires a bypass capacitor of 10 uF to AGND in order to bypass the internal reference voltage. An external reference voltage at this input can be applied. This option can be programmed through control (See Datasheet)", 26 REFP (in) "Reference input, requires a bypass capacitor of 10 uF to AGND in order to bypass the internal reference voltage. An external reference voltage at this input can be applied. This option can be programmed through control (See Datasheet)", 27 REFOUT (out) "Analog fixed reference output voltage of 2.5 V. Sink and source capability of 250 uA. The reference output requires a capacitor of 10 uF to AGND for filtering and stability.", 28 REFIN (in) "Common-mode reference input for the analog input channels. It is recommended that this pin be connected to the reference output REFOUT.", 29 BINM (in) "Analog input, single-ended or negative input of differential channel B", 30 BINP (in) "Analog input, single-ended or positive input of differential channel B", 31 AINM (in) "Analog input, single-ended or negative input of differential channel A", 32 AINP (in) "Analog input, single-ended or positive input of differential channel A"

## THS10064IDA
designator U?
10-Bit, 6 MSPS ADC Quad Channel (Configuration), DSP / uP Interface, Integral 16 x FIFO, Channel Autoscan, Low Power, -40 to 85 degC, 32-pin SOP (DA32), Green (RoHS & no Sb/Br); Manufacturer: Texas Instruments; PartNumber: THS10064IDA; # Input Channels: 4; Analog Voltage AV/DD(Max)(V): 5.25; Analog Voltage AV/DD(Min)(V): 4.75; Architecture: Pipeline; Digital Supply(Min)(V): 3; ENOB(Bits): 9.5; INL(Max)(+/-LSB): 1; Interface: Parallel CMOS; Resolution(Bits): 10; Sample Rate (max)(SPS): 6M; SFDR(dB): 65; SINAD(dB): 59; SNR(dB): 61; SubFamily: Precision ADC (<=10MSPS); DatasheetVersion: SLAS255B; PackageVersion: 4040066/F, 01/2009; PackageReference: DA32; PackageDescription: 32-Pin Plastic Small Outline, Body 11 x 6.1 mm, Pitch 0.65 mm; Supplier 1: Digi-Key; Supplier Part Number 1: TLC0820AIDWRG4-ND; Digital Supply(Max)(V): 5.25; Eco-Plan: Green (RoHS & no Sb/Br); Mounting Technology: Surface Mount; Code_JEDEC: MO-225; ComponentLink1Description: Manufacturer URL; ComponentLink1URL: http://www.ti.com/; ComponentLink2Description: Datasheet; ComponentLink2URL: http://www.ti.com/general/docs/lit/getliterature.tsp?genericPartNumber=THS10064&fileType=pdf; ComponentLink3Description: Package Specification; ComponentLink3URL: http://www.ti.com/lit/ml/mtss002e/mtss002e.pdf
footprint TI-DA32_N (SOP, 32-Leads, Body 11x6.1mm, Pitch 0.65mm, IPC Medium Density)
footprint TI-DA32_L (SOP, 32-Leads, Body 11x6.1mm, Pitch 0.65mm, IPC High Density)
footprint TI-DA32_M (SOP, 32-Leads, Body 11x6.1mm, Pitch 0.65mm, IPC Low Density)
pins: 1 D0 (io) "Digital input, output; D0 = LSB", 2 D1 (io) "Digital input, output; D0 = LSB", 3 D2 (io) "Digital input, output; D0 = LSB", 4 D3 (io) "Digital input, output; D0 = LSB", 5 D4 (io) "Digital input, output; D0 = LSB", 6 D5 (io) "Digital input, output; D0 = LSB", 7 BVDD (power) "Digital supply voltage for buffer", 8 BGND (power) "Digital ground for buffer", 9 D6 (io) "Digital input, output; D0 = LSB", 10 D7 (io) "Digital input, output; D0 = LSB", 11 D8 (io) "Digital input, output; D0 = LSB", 12 D9 (io) "Digital input, output; D0 = LSB", 13 RA0 (in) "Digital input. RA0 is used as an address line for the control register. This is required for writing to the control register 0 and control register 1. See Table 8.", 14 RA1 (in) "Digital input. RA1 is used as an address line for the control register. This is required for writing to control register 0 and control register 1. See Table 8.", 15 CONV_CLK (~{CONVST}) (in) "Digital input. This input is used to apply an external conversion clock in the continuous conversion mode. In the single conversion mode, this input functions as the conversion start (C\O\N\V\S\T\) input. A high to low (See Datasheet)", 16 DATA_AV (out) "Data available signal, which can be used to generate an interrupt for processors and as a level information of the internal FIFO. This signal can be configured to be active low or high and can be configured as a static level (See Datasheet)", 17 DGND (power) "Digital ground. Ground reference for digital circuitry.", 18 DVDD (power) "Digital supply voltage", 19 ~{RD} (in) "The R\D\ input is used only if the W\R\ input is configured as a write only input. In this case, it is a digital input, active low as a data read select from the processor. See timing section.", 20 ~{WR} (R/~{W}) (in) "This input is programmable. It functions as a read-write input R/W\ and can also be configured as a write-only input W\R\, which is active low and used as data write select from the processor. In this case, the R\D\ input is (See Datasheet)", 21 CS1 (in) "Chip select input (active high)", 22 ~{CS0} (in) "Chip select input (active low)", 23 AVDD (power) "Analog supply voltage", 24 AGND (power) "Analog ground", 25 REFM (in) "Reference input, requires a bypass capacitor of 10 uF to AGND in order to bypass the internal reference voltage. An external reference voltage at this input can be applied. This option can be programmed through control (See Datasheet)", 26 REFP (in) "Reference input, requires a bypass capacitor of 10 uF to AGND in order to bypass the internal reference voltage. An external reference voltage at this input can be applied. This option can be programmed through control (See Datasheet)", 27 REFOUT (out) "Analog fixed reference output voltage of 2.5 V. Sink and source capability of 250 uA. The reference output requires a capacitor of 10 uF to AGND for filtering and stability.", 28 REFIN (in) "Common-mode reference input for the analog input channels. It is recommended that this pin be connected to the reference output REFOUT.", 29 BINM (in) "Analog input, single-ended or negative input of differential channel B", 30 BINP (in) "Analog input, single-ended or positive input of differential channel B", 31 AINM (in) "Analog input, single-ended or negative input of differential channel A", 32 AINP (in) "Analog input, single-ended or positive input of differential channel A"